# EAGLE library part EPCS4 (library altera)
4 Mbit Serial Configuration Device
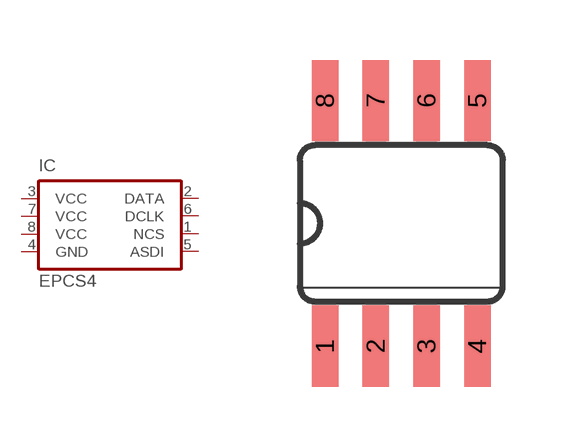
[diagram p2: symbol with the pads of SO08; footprint SO08]

Designator prefix IC

## EPCS4SI8  [SO08]
1  NCS  in
2  DATA  out
3  VCC  pwr
4  GND  pwr
5  ASDI  in
6  DCLK  in
7  VCC  pwr
8  VCC  pwr

## Footprint SO08 (pad centres in mm)
Small Outline Package
smd 0.66 x 2.032: 1 -1.905,-3.073; 2 -0.635,-3.073; 3 0.635,-3.073; 4 1.905,-3.073; 5 1.905,3.073; 6 0.635,3.073; 7 -0.635,3.073; 8 -1.905,3.073